# Altium footprint library D2PAK.PcbLib: 1 footprints
Each footprint in its own frame and in the unit in brackets; x right, y up, seen from the top. Pads: shape width x height; smd on the part's side, far side on the other; paste and mask are expansions set on the pad; w line width, h text height; cw(c..) or ccw(c..) is an arc to the next point about the centre after c.
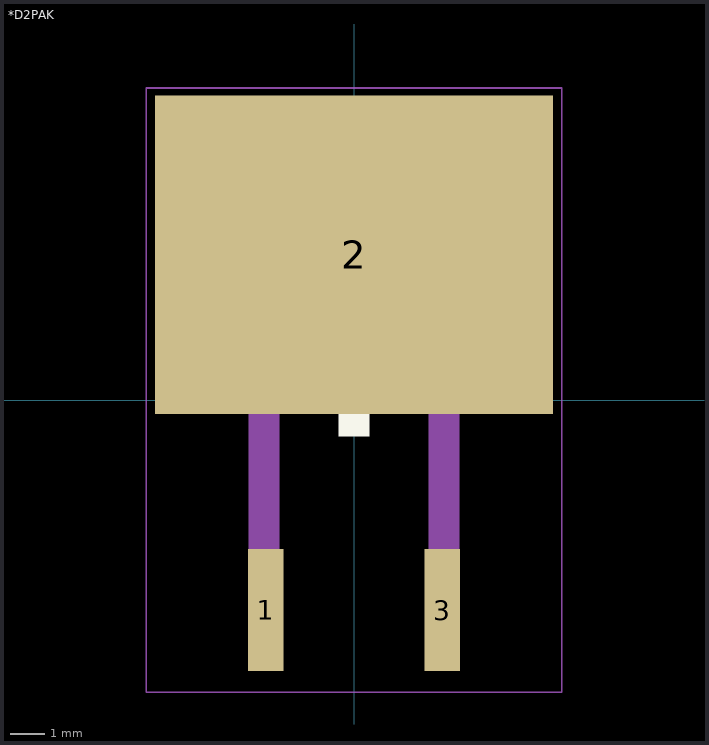
[diagram p0: the footprint, top view; thin cyan lines are the x and y axes]

## *D2PAK [mil]
pads (3):
  rect 40x137.95 smd: 1(-100,-237.13) 3(100,-237.13)
  rect 450x360 smd: 2(0,164.96)
Top Overlay:
  region: -17,-10.26 17,-10.26 17,-40.26 -17,-40.26
  lines w8: -168.37,229.74 -168.39,-6.26 168.39,-6.26 168.37,229.74
Mechanical 4:
  region: -101,233.74 -101,261.74 -83,279.74 83,279.74 101,261.74 101,233.74
  region: 84.81,-6.32 118.81,-6.32 118.81,-232.28 84.81,-232.28
  region: -118.81,-10.26 -84.81,-10.26 -84.81,-236.22 -118.81,-236.22
  region: -101,233.74 -101,261.74 -83,279.74 83,279.74 101,261.74 101,233.74
  region: 84.81,-6.32 118.81,-6.32 118.81,-232.28 84.81,-232.28
  region: -118.81,-10.26 -84.81,-10.26 -84.81,-236.22 -118.81,-236.22
  lines w8: -101,233.74 101,233.74 ; -101,233.74 -101,261.74 ; -101,233.74 101,233.74 ; -101,233.74 -101,261.74 ; -101,261.74 -83,279.74 ; -101,261.74 -83,279.74 ; -83,279.74 83,279.74 ; -83,279.74 83,279.74 ; 83,279.74 101,261.74 ; 83,279.74 101,261.74 ; 101,233.74 101,261.74 ; 101,233.74 101,261.74 ; -168.39,229.72 168.4,229.71 -168.39,229.72
Mechanical 16:
  lines w2: -235.16,-330.04 -235.16,353.66 235.16,353.66 235.16,-330.04 -235.16,-330.04